# EAGLE library part REG_MAX1836 (library akita)
Maxim Step-down Switching Regulator MAX1836/37
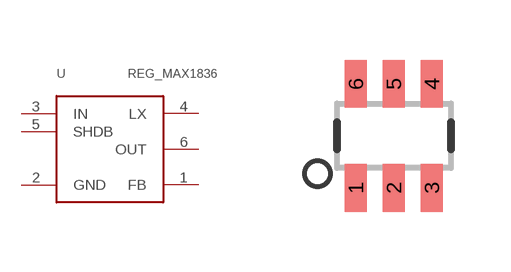
[diagram p26: symbol with the pads of SOT23-6; footprint SOT23-6]

Designator prefix U

## REG_MAX1836  [SOT23-6]
1  FB
2  GND
3  IN
4  LX
5  SHDB
6  OUT

## Footprint SOT23-6 (pad centres in mm)
smd 0.55 x 1.2: 1 -0.95,-1.3; 2 0,-1.3; 3 0.95,-1.3; 4 0.95,1.3; 5 0,1.3; 6 -0.95,1.3